# EAGLE library part LINKSWITCH-TN_P/G (library Power Supplies)
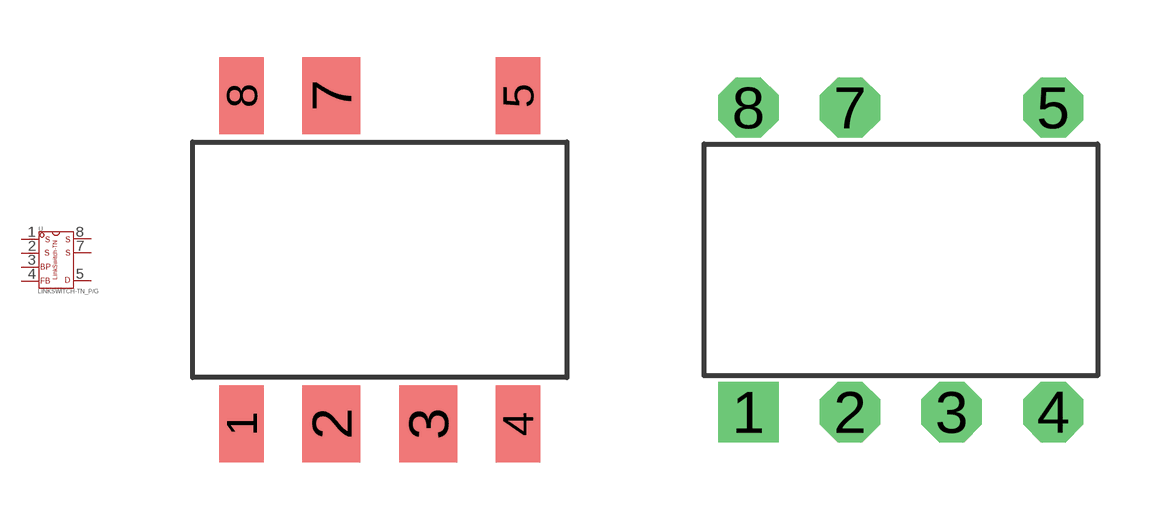
[diagram p0: symbol with the pads of SMD-8B; footprints SMD-8B, PDIP-8B]

Designator prefix U

## LINKSWITCH-TN_P/G_G_PACKAGE  [SMD-8B]
1  1  pas
2  2  pas
3  3  pas
4  4  pas
5  5  pas
7  7  pas
8  8  pas

## LINKSWITCH-TN_P/G_P_PACKAGE  [PDIP-8B]
Pads as for SMD-8B

## Footprint SMD-8B (pad centres in mm)
smd 1.168 x 2.032: 1 -3.632,-4.318; 4 3.632,-4.318; 5 3.632,4.318; 8 -3.632,4.318
smd 1.524 x 2.032: 2 -1.27,-4.318; 3 1.27,-4.318; 7 -1.27,4.318

## Footprint PDIP-8B (pad centres in mm)
drill 1 square: 1 -3.81,-3.81
drill 1 octagon: 2 -1.27,-3.81; 3 1.27,-3.81; 4 3.81,-3.81; 5 3.81,3.81; 7 -1.27,3.81; 8 -3.81,3.81